# Altium footprint library Wurth Red LED.PcbLib: 1 footprints
Each footprint in its own frame and in the unit in brackets; x right, y up, seen from the top. Pads: shape width x height; smd on the part's side, far side on the other; paste and mask are expansions set on the pad; w line width, h text height; cw(c..) or ccw(c..) is an arc to the next point about the centre after c.
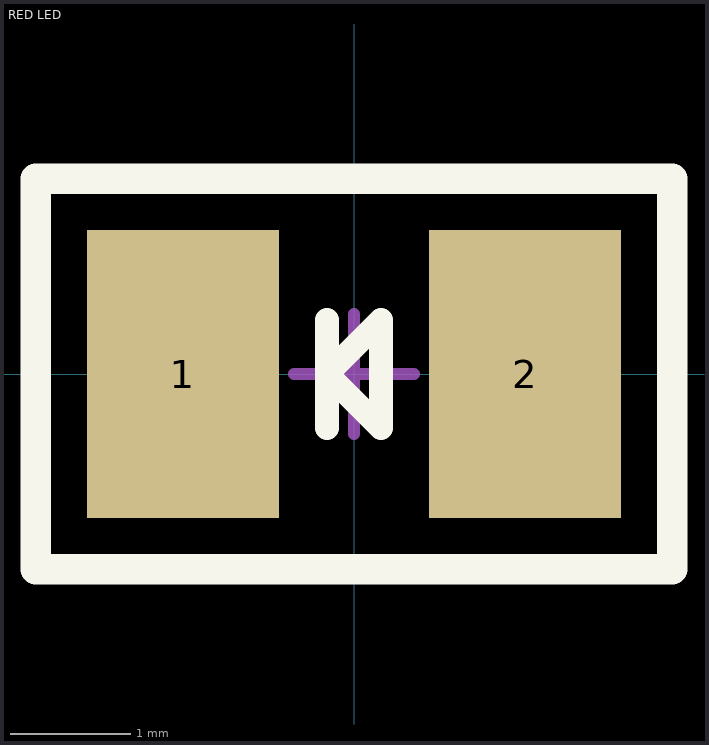
[diagram p0: the footprint, top view; thin cyan lines are the x and y axes]

## RED LED [mm]
pads (2):
  rect 1.6x2.4 smd: 1(-1.425,0) 2(1.425,0)
Top Overlay:
  lines w0.2: -0.225,-0.45 -0.225,0 ; -0.225,0.45 -0.225,0 ; -0.225,0 0.225,-0.45 0.225,0 0.225,0.45 -0.225,0 ; -0.225,0 -0.225,0
  lines w0.254: -2.65,-1.625 2.65,-1.625 2.65,1.625 -2.65,1.625 -2.65,-1.625
Mechanical 15:
  lines w0.1: -0.5,0 0.5,0 ; 0,-0.5 0,0.5
3D body "WL-SMTW_3528.stp": height 1.88, standoff -0.02, extent -1.75,-1.4 1.75,1.4